# EAGLE library part OV2640-HDF3M-811 (library parts)
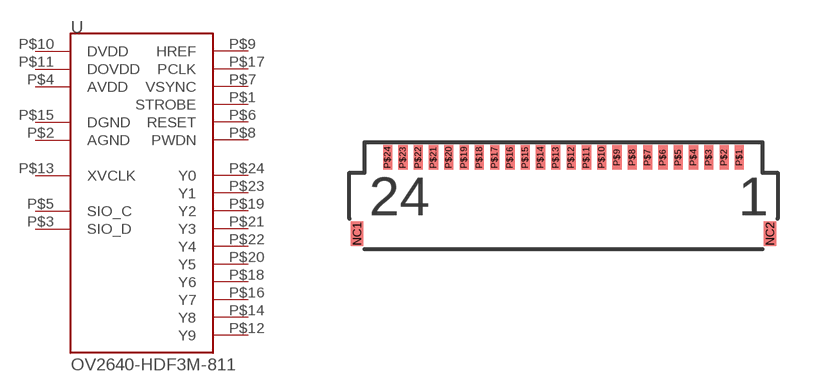
[diagram p0: symbol with the pads of FH34SRJ-24S-0.5SH(50); footprint FH34SRJ-24S-0.5SH(50)]

Designator prefix -

## OV2640-HDF3M-811FRONTLOOKING  [FH34SRJ-24S-0.5SH(50)]
P$1  STROBE  out
P$2  AGND  pwr
P$3  SIO_D
P$4  AVDD  pwr
P$5  SIO_C  in
P$6  RESET  in
P$7  VSYNC  out
P$8  PWDN  in
P$9  HREF  out
P$10  DVDD  pwr
P$11  DOVDD  pwr
P$12  Y9  out
P$13  XVCLK  in
P$14  Y8  out
P$15  DGND  pwr
P$16  Y7  out
P$17  PCLK  out
P$18  Y6  out
P$19  Y2  out
P$20  Y5  out
P$21  Y3  out
P$22  Y4  out
P$23  Y1  out
P$24  Y0  out

## Footprint FH34SRJ-24S-0.5SH(50) (pad centres in mm)
smd 0.4 x 0.8: NC1 -6.75,-2.5; NC2 6.75,-2.5
smd 0.3 x 0.8: P$1 5.75,0; P$2 5.25,0; P$3 4.75,0; P$4 4.25,0; P$5 3.75,0; P$6 3.25,0; P$7 2.75,0; P$8 2.25,0; P$9 1.75,0; P$10 1.25,0; P$11 0.75,0; P$12 0.25,0; P$13 -0.25,0; P$14 -0.75,0; P$15 -1.25,0; P$16 -1.75,0; P$17 -2.25,0; P$18 -2.75,0; P$19 -3.25,0; P$20 -3.75,0; P$21 -4.25,0; P$22 -4.75,0; P$23 -5.25,0; P$24 -5.75,0